# EAGLE library part IC_TTY_MAX233 (library mylib_20130829)
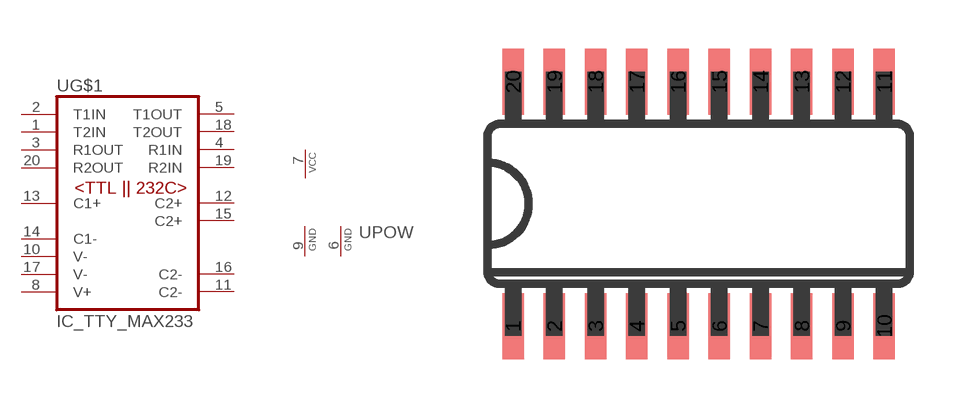
[diagram p11: symbol with the pads of IC_20_1.27_300MIL; footprint IC_20_1.27_300MIL]

Designator prefix U; gates G$1=IC_TTY_MAX233 POW=REF_1VCC_2GND

## IC_TTY_MAX233  [IC_20_1.27_300MIL]
1  G$1:T2IN  in
2  G$1:T1IN  in
3  G$1:R1OUT  out
4  G$1:R1IN  in
5  G$1:T1OUT  out
6  POW:GND  pwr
7  POW:VCC  pwr
8  G$1:V+
9  POW:GND  pwr
10  G$1:V-
11  G$1:C2-
12  G$1:C2+
13  G$1:C1+
14  G$1:C1-
15  G$1:C2+
16  G$1:C2-
17  G$1:V-
18  G$1:T2OUT  out
19  G$1:R2IN  in
20  G$1:R2OUT  out

## Footprint IC_20_1.27_300MIL (pad centres in mm)
Small Outline Package
smd 0.66 x 2.032: 1 -6.35,-3.759; 2 -5.08,-3.759; 3 -3.81,-3.759; 4 -2.54,-3.759; 5 -1.27,-3.759; 6 0,-3.759; 7 1.27,-3.759; 8 2.54,-3.759; 9 3.81,-3.759; 10 5.08,-3.759; 11 5.08,3.759; 12 3.81,3.759; 13 2.54,3.759; 14 1.27,3.759; 15 0,3.759; 16 -1.27,3.759; 17 -2.54,3.759; 18 -3.81,3.759; 19 -5.08,3.759; 20 -6.35,3.759